# Altium schematic symbol library CJ_Component.SchLib: 8 symbols
Pins are listed as number, name and electrical type; pins without a type are passive.

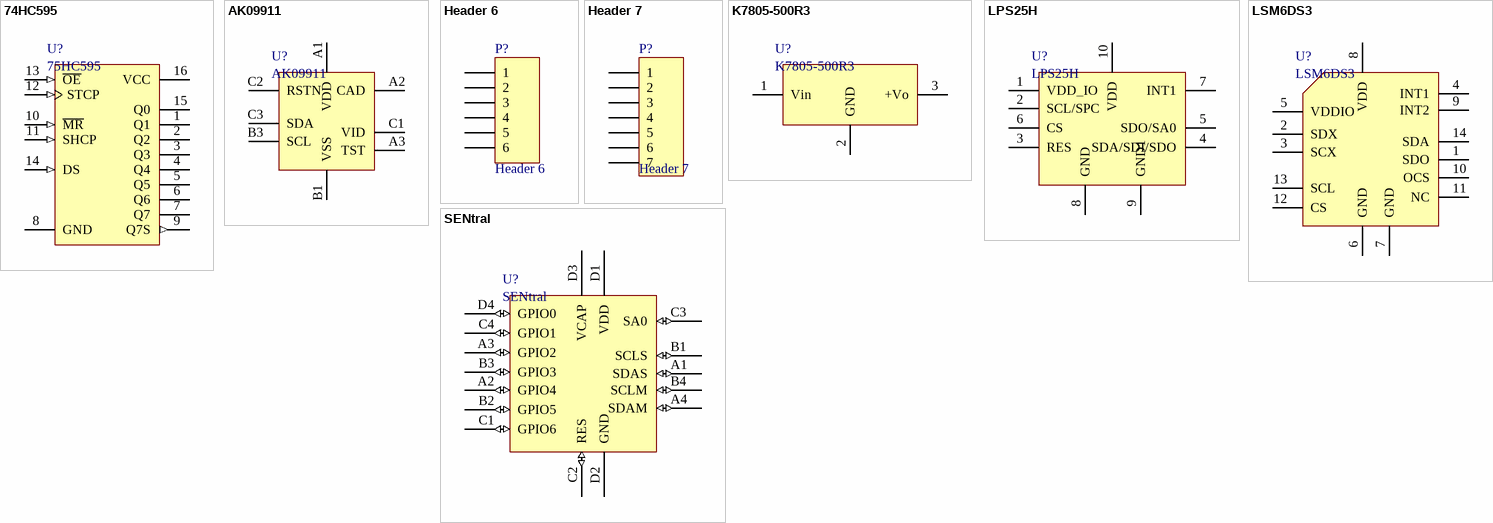
[diagram p0: symbols 74HC595 to SENtral]

## 74HC595
designator U?, comment 75HC595
IC 8BIT SHIFT REGISTER 16-DHVQFN
footprint SOT763-1
pins: 1 Q1 (hiz), 2 Q2 (hiz), 3 Q3 (hiz), 4 Q4 (hiz), 5 Q5 (hiz), 6 Q6 (hiz), 7 Q7 (hiz), 8 GND (power), 9 Q7S (out), 10 ~{MR} (in), 11 SHCP (in), 12 STCP (in), 13 ~{OE} (in), 14 DS (in), 15 Q0 (hiz), 16 VCC (power)

## AK09911
designator U?
footprint UFBGA8
pins: A1 VDD, A2 CAD, A3 TST, B1 VSS, B3 SCL, C1 VID, C2 RSTN, C3 SDA

## Header 6
designator P?
接插件; LatestRevisionDate: 17-Jul-2002; LatestRevisionNote: Re-released for DXP Platform.; Publisher: Altium Limited
footprint HDR6X1_B2 (Connector; Header; 3 Position)
footprint HDR6X1_B1 (Connector; Header; 4 Position)
footprint HDR6X1_A
pins: 1, 2, 3, 4, 5, 6

## Header 7
designator P?
接插件; LatestRevisionDate: 17-Jul-2002; LatestRevisionNote: Re-released for DXP Platform.; Publisher: Altium Limited
footprint HDR7X1_A (Connector; Header; 4 Position)
pins: 1, 2, 3, 4, 5, 6, 7

## K7805-500R3
designator U?
MORNSUN  DC/DC Converter
footprint K7805-500R3
pins: 1 Vin (power), 2 GND (power), 3 +Vo (power)

## LPS25H
designator U?
footprint HLGA-10L
pins: 1 VDD_IO, 2 SCL/SPC, 3 RES, 4 SDA/SDI/SDO, 5 SDO/SA0, 6 CS, 7 INT1, 8 GND, 9 GND1, 10 VDD

## LSM6DS3
designator U?
footprint LGA-14L
pins: 1 SDO, 2 SDX, 3 SCX, 4 INT1, 5 VDDIO, 6 GND, 7 GND, 8 VDD, 9 INT2, 10 OCS, 11 NC, 12 CS, 13 SCL, 14 SDA

## SENtral
designator U?
PNI SENtral
footprint BGA16C40P4X4_160X160X51 (BGA, 16-Leads, Body 1.60x1.60mmx0.51mm, Pitch 0.40mm)
pins: A1 SDAS (io), A2 GPIO4 (io), A3 GPIO2 (io), A4 SDAM (io), B1 SCLS (io), B2 GPIO5 (io), B3 GPIO3 (io), B4 SCLM (io), C1 GPIO6 (io), C2 RES (io), C3 SA0 (io), C4 GPIO1 (io), D1 VDD (power), D2 GND (power), D3 VCAP, D4 GPIO0 (io)